# EAGLE library part ADG658 (library JSB2)
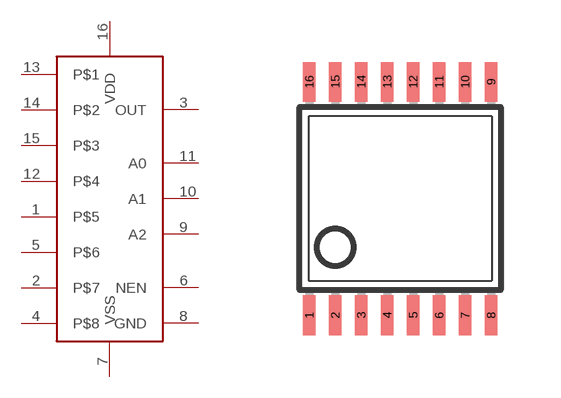
[diagram p3: symbol with the pads of TSSOP16; footprint TSSOP16]

Designator prefix -

## ADG658  [TSSOP16]
1  P$5
2  P$7
3  OUT
4  P$8
5  P$6
6  NEN
7  VSS
8  GND
9  A2
10  A1
11  A0
12  P$4
13  P$1
14  P$2
15  P$3
16  VDD

## Footprint TSSOP16 (pad centres in mm)
Thin Shrink Small Outline Plastic 16 MAX3223-MAX3243.pdf
smd 0.305 x 0.991: 1 -2.275,-2.918; 2 -1.625,-2.918; 3 -0.975,-2.918; 4 -0.325,-2.918; 5 0.325,-2.918; 6 0.975,-2.918; 7 1.625,-2.918; 8 2.275,-2.918; 9 2.275,2.918; 10 1.625,2.918; 11 0.975,2.918; 12 0.325,2.918; 13 -0.325,2.918; 14 -0.975,2.918; 15 -1.625,2.918; 16 -2.275,2.918